# Altium footprint library PcbLib1.PcbLib: 5 footprints
Each footprint in its own frame and in the unit in brackets; x right, y up, seen from the top. Pads: shape width x height; smd on the part's side, far side on the other; paste and mask are expansions set on the pad; w line width, h text height; cw(c..) or ccw(c..) is an arc to the next point about the centre after c.
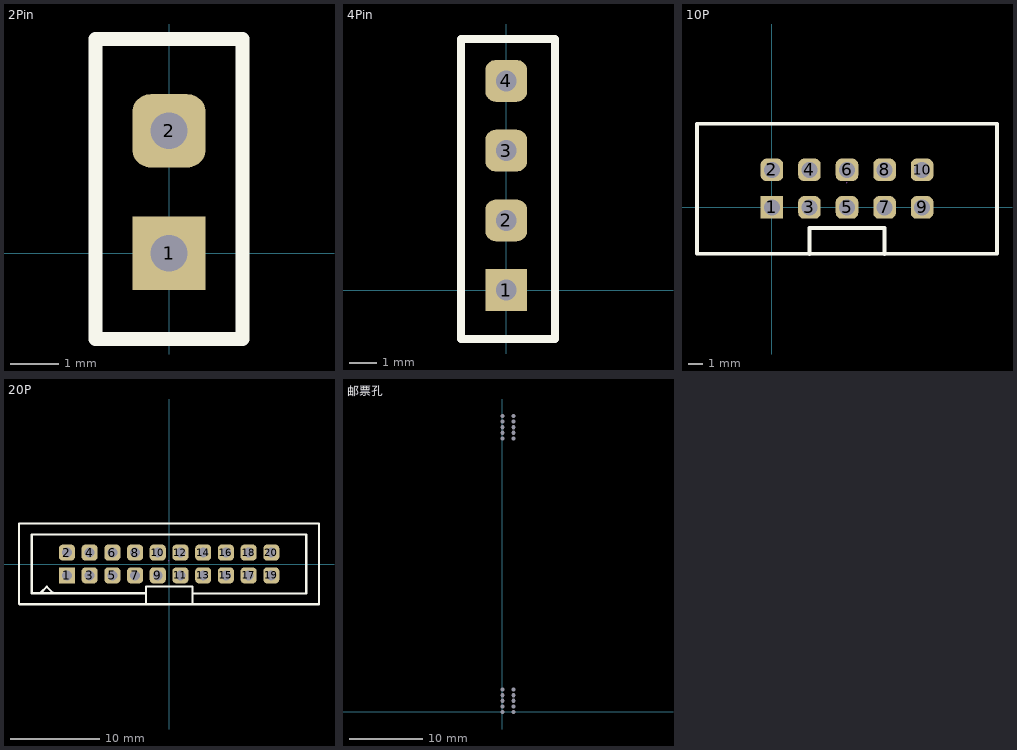
[diagram p0: the footprints below, top view; thin cyan lines are the x and y axes]

## 2Pin [mil]
pads (2):
  rect 60x60 hole 30: 1(0,0)
  rrect50% 60x60 hole 30: 2(0,100)
Top Overlay:
  lines w11.5: -60,-70 60,-70 60,175 -60,175 -60,-70

## 4Pin [mil]
pads (4):
  rect 60x60 hole 30: 1(0,0)
  rrect50% 60x60 hole 30: 2(0,100) 3(0,200) 4(0,300)
Top Overlay:
  lines w11.5: -65,-70 -65,360 70,360 70,-70 -65,-70

## 10P [mil]
pads (10):
  rect 60x60 hole 43.3: 1(0,0)
  rrect50% 60x60 hole 43.3: 2(0,100) 3(100,0) 4(100,100) 5(200,0) 6(200,100) 7(300,0) 8(300,100) 9(400,0) 10(400,100)
Top Overlay:
  lines w10: 102,-122 100,-125 100,-55 300,-55 300,-124 300,-122 ; -199.61,-123.23 599.6,-123.23 599.6,223.23 -199.61,223.23 -199.61,-123.23
Mechanical 15:
  lines w0.1: 199,65.25 201,67.25

## 20P [mm]
pads (20):
  rect 1.8x1.8 hole 1.1: 1(-11.43,-1.27)
  rrect50% 1.8x1.8 hole 1.1: 2(-11.43,1.27) 3(-8.89,-1.27) 4(-8.89,1.27) 5(-6.35,-1.27) 6(-6.35,1.27) 7(-3.81,-1.27) 8(-3.81,1.27) 9(-1.27,-1.27) 10(-1.27,1.27) 11(1.27,-1.27) 12(1.27,1.27) 13(3.81,-1.27) 14(3.81,1.27) 15(6.35,-1.27) 16(6.35,1.27) 17(8.89,-1.27) 18(8.89,1.27) 19(11.43,-1.27) 20(11.43,1.27)
Top Overlay:
  lines w0.254: -16.789,-4.479 -16.789,4.521 ; -16.761,4.521 16.739,4.521 ; -16.736,-4.496 16.764,-4.496 16.764,4.504 ; -15.367,3.293 -15.367,-3.277 -2.616,-3.277 -2.591,-3.251 ; -15.358,3.302 15.342,3.302 15.342,-3.268 ; -14.326,-3.175 -13.691,-2.54 -13.005,-3.226 -13.005,-3.251 ; -2.591,-4.496 -2.591,-2.515 -2.362,-2.515 2.616,-2.515 2.616,-4.496 2.642,-4.521 ; 2.616,-3.327 2.616,-3.302 15.342,-3.302 15.342,-3.277
Mechanical 15:
  lines w0.003: -0.038,0.349 0.013,0.4

## 邮票孔 [mil]
pads (20):
  round 10 hole 22: yp(0,0) yp(0,30) yp(0,60) yp(0,90) yp(0,120) yp(0,1470) yp(0,1500) yp(0,1530) yp(0,1560) yp(0,1590) yp(60,0) yp(60,30) yp(60,60) yp(60,90) yp(60,120) yp(60,1470) yp(60,1500) yp(60,1530) yp(60,1560) yp(60,1590)